# Altium schematic symbol library BL653u_Integrated Antenna module 453-00059 SCH Symbol.SCHLIB: 1 symbol
Pins are listed as number, name and electrical type; pins without a type are passive.

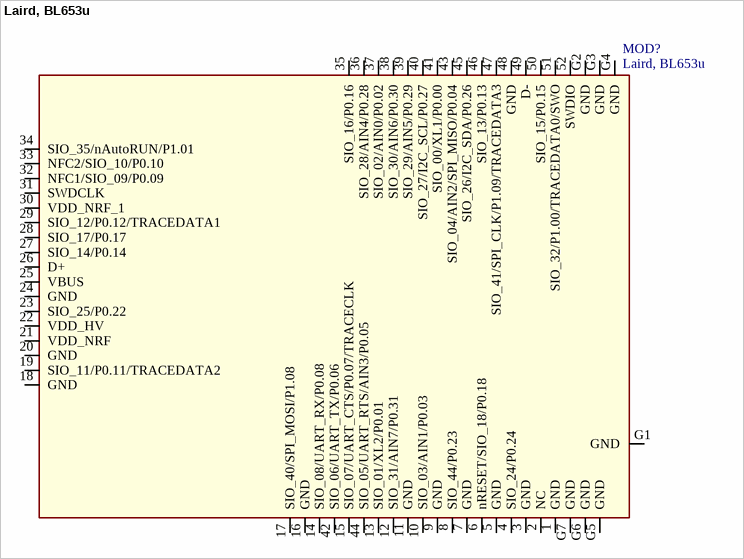
[diagram p0: symbol Laird, BL653u]

## Laird, BL653u
designator MOD?
BL653µ Integrated Antenna module, 453-00059; Substitutes Allowed: NO; Datasheet Link: https://connectivity-staging.s3.us-east-2.amazonaws.com/s3fs-public/2018-12/BL654%20Datasheet%20v1_6.pdf; Mounting: SMT; Operating Temperature: -40C~85C; Manufacturer Part Number: 453-00059; Footprint: Laird, Module, BL653u-SA; Manufacturer: Laird
footprint 45300059C_m
pins: 1 GND, 2 NC, 3 GND, 4 SIO_24/P0.24, 5 GND, 6 nRESET/SIO_18/P0.18, 7 GND, 8 SIO_44/P0.23, 9 GND, 10 SIO_03/AIN1/P0.03, 11 GND, 12 SIO_31/AIN7/P0.31, 13 SIO_01/XL2/P0.01, 14 SIO_08/UART_RX/P0.08, 15 SIO_07/UART_CTS/P0.07/TRACECLK, 16 GND, 17 SIO_40/SPI_MOSI/P1.08, 18 GND, 19 SIO_11/P0.11/TRACEDATA2, 20 GND, 21 VDD_NRF, 22 VDD_HV, 23 SIO_25/P0.22           , 24 GND, 25 VBUS, 26 D+, 27 SIO_14/P0.14, 28 SIO_17/P0.17, 29 SIO_12/P0.12/TRACEDATA1, 30 VDD_NRF_1, 31 SWDCLK, 32 NFC1/SIO_09/P0.09, 33 NFC2/SIO_10/P0.10, 34 SIO_35/nAutoRUN/P1.01, 35 SIO_16/P0.16, 36 SIO_28/AIN4/P0.28, 37 SIO_02/AIN0/P0.02, 38 SIO_30/AIN6/P0.30, 39 SIO_29/AIN5/P0.29, 40 SIO_27/I2C_SCL/P0.27, 41 SIO_00/XL1/P0.00, 42 SIO_06/UART_TX/P0.06, 43 SIO_04/AIN2/SPI_MISO/P0.04, 44 SIO_05/UART_RTS/AIN3/P0.05, 45 SIO_26/I2C_SDA/P0.26, 46 SIO_13/P0.13, 47 SIO_41/SPI_CLK/P1.09/TRACEDATA3, 48 GND, 49 D-, 50 SIO_15/P0.15, 51 SIO_32/P1.00/TRACEDATA0/SWO, 52 SWDIO, G1 GND, G2 GND, G3 GND, G4 GND, G5 GND, G6 GND, G7 GND